# Altium footprint library TO254P1052X465X1989-3.PcbLib: 1 footprints
Each footprint in its own frame and in the unit in brackets; x right, y up, seen from the top. Pads: shape width x height; smd on the part's side, far side on the other; paste and mask are expansions set on the pad; w line width, h text height; cw(c..) or ccw(c..) is an arc to the next point about the centre after c.
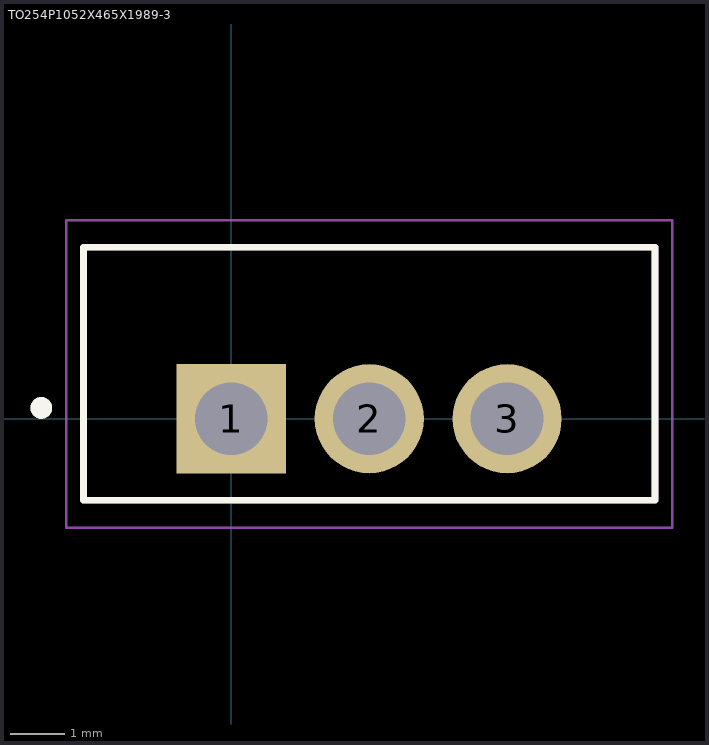
[diagram p0: the footprint, top view; thin cyan lines are the x and y axes]

## TO254P1052X465X1989-3 [mm]
pads (3):
  rect 2.01x2.01 / inner round 2.01 / far side rect 2.01x2.01 hole 1.34: 1(0,0)
  round 2.01 hole 1.34: 2(2.54,0) 3(5.08,0)
Top Overlay:
  circle w0.2: c-3.5,0.2 r0.1
  lines w0.127: -2.72,-1.5 -2.72,3.16 7.8,3.16 7.8,-1.5 -2.72,-1.5
Mechanical 13:
  circle w0.2: c-3.5,0.2 r0.1
  lines w0.127: -2.72,-1.5 -2.72,3.16 7.8,3.16 7.8,-1.5 -2.72,-1.5
Mechanical 15:
  lines w0.05: -3.04,-2.005 -3.04,3.655 8.12,3.655 8.12,-2.005 -3.04,-2.005
3D body "step_temp.STEP": height 19.89, standoff -10.36, extent -5.118,-1.537 5.118,2.908